# EAGLE library part PEM1200 (library mbed-HDK-IC)
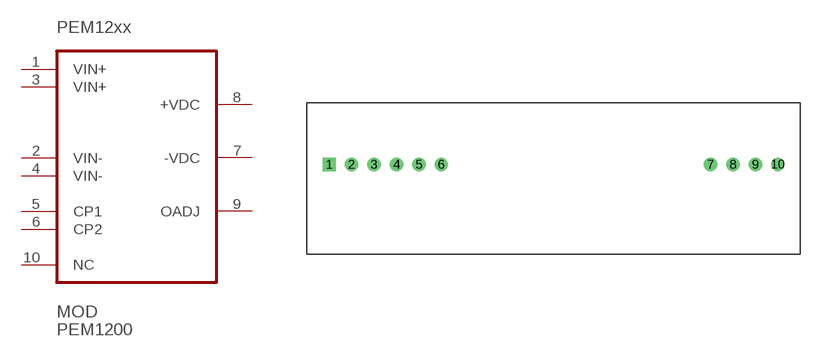
[diagram p8: symbol with the pads of PEM1200; footprint PEM1200]

Designator prefix MOD

## PEM1200  [PEM1200]
1  VIN+
2  VIN-
3  VIN+
4  VIN-
5  CP1
6  CP2
7  -VDC
8  +VDC
9  OADJ
10  NC

## Footprint PEM1200 (pad centres in mm)
drill 1 square: 1 0,0
drill 1: 2 2.54,0; 3 5.08,0; 4 7.62,0; 5 10.16,0; 6 12.7,0; 7 43.18,0; 8 45.72,0; 9 48.26,0; 10 50.8,0